# Altium footprint library intelGalileoIdcAdapter.PcbLib: 1 footprints
Each footprint in its own frame and in the unit in brackets; x right, y up, seen from the top. Pads: shape width x height; smd on the part's side, far side on the other; paste and mask are expansions set on the pad; w line width, h text height; cw(c..) or ccw(c..) is an arc to the next point about the centre after c.
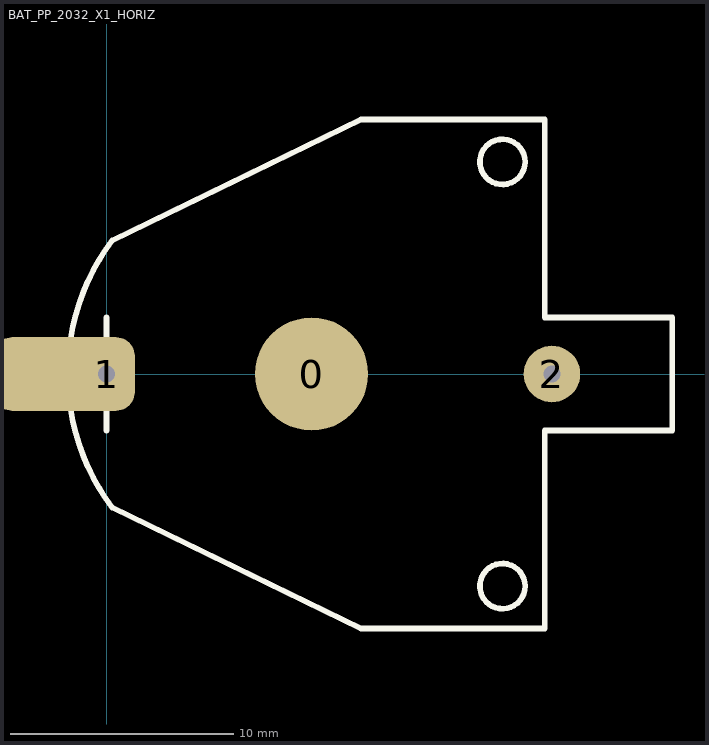
[diagram p0: the footprint, top view; thin cyan lines are the x and y axes]

## BAT_PP_2032_X1_HORIZ [mil]
pads (3):
  round 200 smd: 0(362.5,0)
  rrect50% 250x130 hole 30 copper offset -75,0: 1(0,0)
  round 100 hole 30: 2(787.4,0)
Top Overlay:
  circle w10: c700,375 r40
  circle w10: c700,-375 r40
  lines w10: 0,-100 0,100 ; 375,-62.5 375,62.5 ; 10.04,-236.22 cw(c325,0) 10.04,236.22 450,450 775,450 775,100 1000,100 1000,-100 775,-100 775,-450 450,-450 10.04,-236.22
3D body: height 256.54, standoff -117.48, extent -62.99,-452.76 1000,452.76